# Altium footprint library ES_Class6C_2L.PcbLib: 22 footprints (part 2 of 2)
Each footprint in its own frame and in the unit in brackets; x right, y up, seen from the top. Pads: shape width x height; smd on the part's side, far side on the other; paste and mask are expansions set on the pad; w line width, h text height; cw(c..) or ccw(c..) is an arc to the next point about the centre after c.
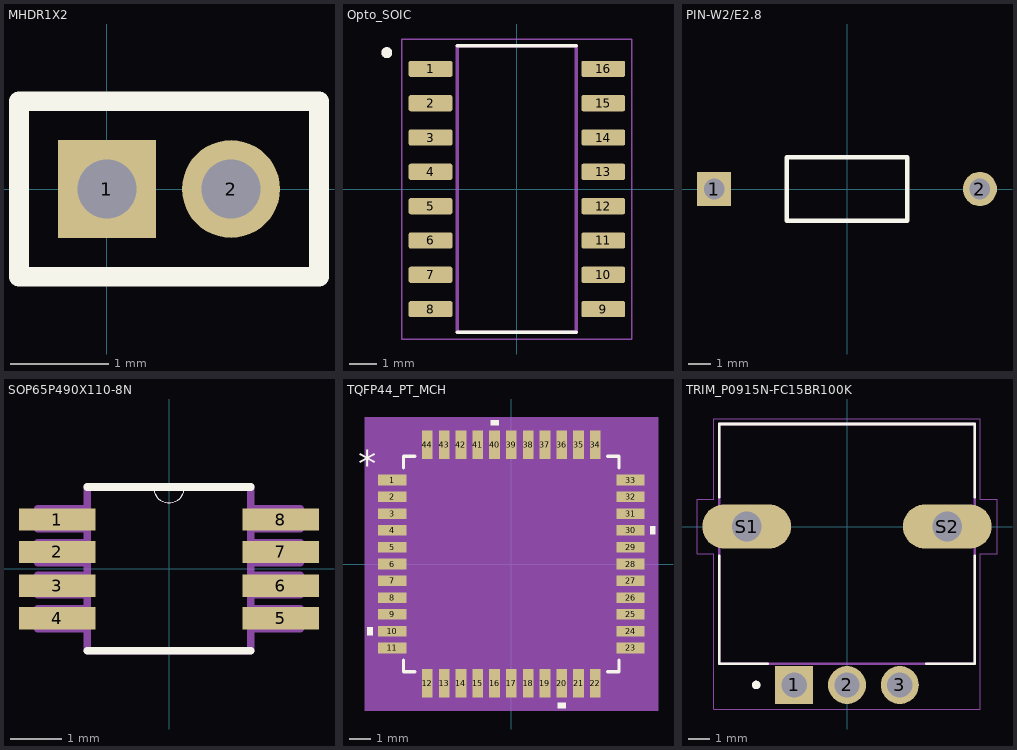
[diagram p1: the footprints below, top view; thin cyan lines are the x and y axes]

## MHDR1X2 [mm] "Connector; Header; 2 Position"
pads (2):
  rect 1x1 hole 0.6: 1(0,0)
  round 1 hole 0.6: 2(1.27,0)
Top Overlay:
  lines w0.2: -0.9,-0.9 -0.9,0.9 2.17,0.9 2.17,-0.9 -0.9,-0.9

## Opto_SOIC [mm]
pads (16):
  rrect25% 1.62x0.6 smd: 1(-3.195,4.445) 2(-3.195,3.175) 3(-3.195,1.905) 4(-3.195,0.635) 5(-3.195,-0.635) 6(-3.195,-1.905) 7(-3.195,-3.175) 8(-3.195,-4.445) 9(3.195,-4.445) 10(3.195,-3.175) 11(3.195,-1.905) 12(3.195,-0.635) 13(3.195,0.635) 14(3.195,1.905) 15(3.195,3.175) 16(3.195,4.445)
Top Overlay:
  circle w0.2: c-4.815,5.045 r0.1
  lines w0.127: -2.2,-5.3 2.2,-5.3 ; -2.2,5.3 2.2,5.3
Mechanical 13:
  circle w0.2: c-4.815,5.045 r0.1
  lines w0.127: -2.2,-5.3 2.2,-5.3 2.2,5.3 -2.2,5.3 -2.2,-5.3
Mechanical 15:
  lines w0.05: -4.255,-5.55 4.255,-5.55 4.255,5.55 -4.255,5.55 -4.255,-5.55

## PIN-W2/E2.8 [mm] "Thru-Hole; 2 Leads"
pads (2):
  rect 1.5x1.5 hole 0.9: 1(-5.825,0)
  round 1.5 hole 0.9: 2(5.825,0)
Top Overlay:
  lines w0.2: -2.65,-1.4 2.65,-1.4 2.65,1.4 -2.65,1.4 -2.65,-1.4

## SOP65P490X110-8N [mil]
pads (8):
  rect 59x17 smd: 1(-86,38) 2(-86,13) 3(-86,-13) 4(-86,-38) 5(86,-38) 6(86,-13) 7(86,13) 8(86,38)
Top Overlay:
  lines w0: -12,63 ccw(c0,63) 12,63
  lines w6: -63,-63 63,-63 ; -63,63 -12,63 12,63 63,63
Mechanical 13:
  lines w0: -12,63 ccw(c0,63) 12,63
  lines w6: -101,-46 -63,-46 -63,-31 -101,-31 -101,-46 ; -101,-20 -63,-20 -63,-5 -101,-5 -101,-20 ; -101,5 -63,5 -63,20 -101,20 -101,5 ; -101,31 -63,31 -63,46 -101,46 -101,31 ; -63,-63 -63,63 -12,63 12,63 63,63 63,-63 -63,-63 ; 63,-46 101,-46 101,-31 63,-31 63,-46 ; 63,-20 101,-20 101,-5 63,-5 63,-20 ; 63,5 101,5 101,20 63,20 63,5 ; 63,31 101,31 101,46 63,46 63,31
3D body "step_temp.STEP": height 43.31, standoff 0, extent -96.46,-59.06 96.46,59.06

## TQFP44_PT_MCH [mil]
pads (44):
  rect 53x20 smd paste+0 mask+0: 1(-223.5,157.48) 2(-223.5,125.98) 3(-223.5,94.49) 4(-223.5,62.99) 5(-223.5,31.5) 6(-223.5,0) 7(-223.5,-31.5) 8(-223.5,-62.99) 9(-223.5,-94.49) 10(-223.5,-125.98) 11(-223.5,-157.48) 23(223.5,-157.48) 24(223.5,-125.98) 25(223.5,-94.49) 26(223.5,-62.99) 27(223.5,-31.5) 28(223.5,0) 29(223.5,31.5) 30(223.5,62.99) 31(223.5,94.49) 32(223.5,125.98) 33(223.5,157.48)
  rect 20x53 smd paste+0 mask+0: 12(-157.48,-223.5) 13(-125.98,-223.5) 14(-94.49,-223.5) 15(-62.99,-223.5) 16(-31.5,-223.5) 17(0,-223.5) 18(31.5,-223.5) 19(62.99,-223.5) 20(94.49,-223.5) 21(125.98,-223.5) 22(157.48,-223.5) 34(157.48,223.5) 35(125.98,223.5) 36(94.49,223.5) 37(62.99,223.5) 38(31.5,223.5) 39(0,223.5) 40(-31.5,223.5) 41(-62.99,223.5) 42(-94.49,223.5) 43(-125.98,223.5) 44(-157.48,223.5)
Top Overlay:
  region: -260,-118.48 -270,-118.48 -270,-133.48 -260,-133.48
  region: 101.99,-260 86.99,-260 86.99,-270 101.99,-270
  region: 260,70.49 270,70.49 270,55.49 260,55.49
  region: -24,260 -39,260 -39,270 -24,270
  lines w6: -202,-180.58 -202,-202 -180.58,-202 ; -202,180.58 -202,202 -180.58,202 ; 180.58,-202 202,-202 202,-180.58 ; 180.58,202 202,202 202,180.58
  text "*" at -287.5,163.23 h50
Mechanical 5:
  region: 275,-275 -275,-275 -275,275 275,275
Mechanical 13:
  drawing of 181 lines, arcs and shapes, not listed
  text "*" at -194.5,148.23 h50
Mechanical 15:
  region: -177.48,-207 -207,-207 -207,-177.48 -260,-177.48 -260,177.48 -207,177.48 -207,207 -177.48,207 -177.48,260 177.48,260 177.48,207 207,207 207,177.48 260,177.48 260,-177.48 207,-177.48 207,-207 177.48,-207 177.48,-260 -177.48,-260
  lines w6: -260,-177.48 -207,-177.48 -207,-207 -177.48,-207 -177.48,-260 177.48,-260 177.48,-207 207,-207 207,-177.48 260,-177.48 260,177.48 207,177.48 207,207 177.48,207 177.48,260 -177.48,260 -177.48,207 -207,207 -207,177.48 -260,177.48 -260,-177.48
3D body "TQFP44_PT_MCH.step": height 47.09, standoff 0, extent -235.98,-235.98 235.98,235.98

## TRIM_P0915N-FC15BR100K [mm]
height 26
pads (5):
  rect 1.8x1.8 / inner round 1.8 / far side rect 1.8x1.8 hole 1.2: 1(-2.5,-7.5)
  round 1.8 hole 1.2: 2(0,-7.5) 3(2.5,-7.5)
  oval 4.2x2.1 hole 1.4 square: S1(-4.75,0) S2(4.75,0)
Top Overlay:
  circle w0.2: c-4.3,-7.5 r0.1
  lines w0.127: -6.05,-1.4 -6.05,-6.5 -3.75,-6.5 ; -6.05,1.4 -6.05,4.85 6.05,4.85 6.05,1.4 ; 3.75,-6.5 6.05,-6.5 6.05,-1.4
Mechanical 13:
  circle w0.2: c-4.3,-7.5 r0.1
  lines w0.127: -6.05,-6.5 -6.05,4.85 6.05,4.85 6.05,-6.5 -6.05,-6.5
Mechanical 15:
  lines w0.05: -7.1,-1.3 -7.1,1.3 -6.3,1.3 -6.3,5.1 6.3,5.1 6.3,1.3 7.1,1.3 7.1,-1.3 6.3,-1.3 6.3,-8.65 -6.3,-8.65 -6.3,-1.3 -7.1,-1.3
3D body "step_temp.STEP": height 26, standoff -4, extent -6.048,-6.25 6.05,6.25